# Altium schematic symbol library TS02-66-43-BK-100-LCR-D.SchLib: 1 symbol
Pins are listed as number, name and electrical type; pins without a type are passive.

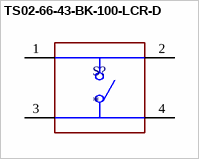
[diagram p0: symbol TS02-66-43-BK-100-LCR-D]

## TS02-66-43-BK-100-LCR-D
designator S?
6 x 6 mm, 4.3 mm Actuator Height, 100 gf, Black, Long Crimped, Through Hole, SPST, Tactile Switch; MF: CUI Devices; MP: TS02-66-43-BK-100-LCR-D; Availability: In Stock; Value: *; Package: None; Price: None; SnapEDA_Link: https://www.snapeda.com/parts/TS02-66-43-BK-100-LCR-D/CUI+Devices/view-part/?ref=snap; Purchase-URL: https://pricing.snapeda.com/search/part/TS02-66-43-BK-100-LCR-D/?ref=eda; CUI_purchase_URL: https://www.cuidevices.com/product/switches/tactile-switches/ts02-series?utm_source=snapeda.com&utm_medium=referral&utm_campaign=snapedaBOM; Check_prices: https://www.snapeda.com/parts/TS02-66-43-BK-100-LCR-D/CUI+Devices/view-part/?ref=eda
footprint SW_TS02-66-43-BK-100-LCR-D
pins: 1, 2, 3, 4